# Altium schematic symbol library Linear Technology Power Management Energy Harvesting.SchLib: 169 symbols (part 9 of 13)
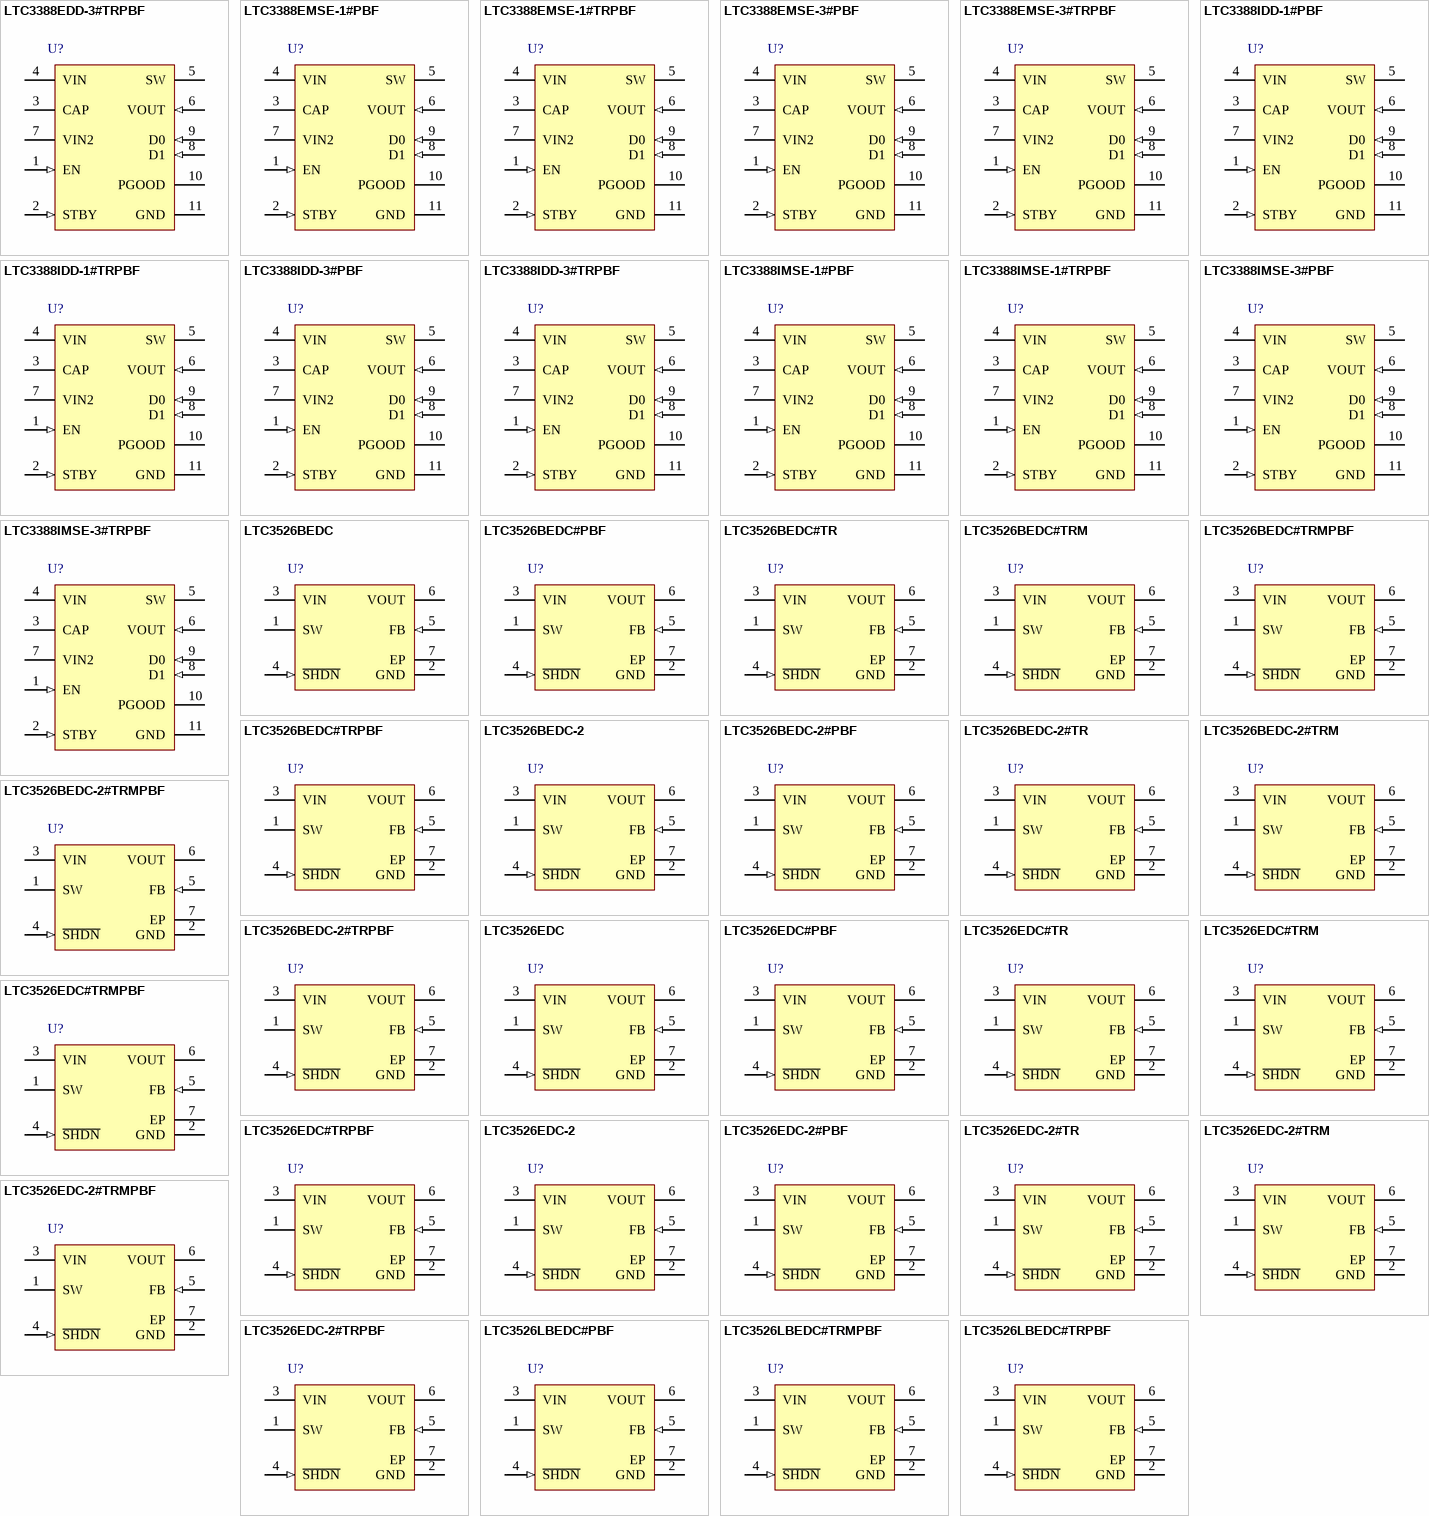
[diagram p13: symbols LTC3388EDD-3#TRPBF to LTC3526LBEDC#TRPBF]

## LTC3388IMSE-3#PBF
designator U?
20 V High Efficiency Nanopower Step-Down Regulator, 10-pin SOP (MSE-10), -40 to 125 degC, Pb-Free; Manufacturer: Linear Technology; PartNumber: LTC3388IMSE-3#PBF; Number of Outputs: 1; Topology: Buck; Vin Max(V): 20; Vin Min(V): 2.7; Vout Max(V): 5.18; PackageVersion: Rev. I, 05/2013; PackageReference: MSE-10; PackageDescription: 10-Pin Plastic MSOP, Exposed Die Pad, Body 3 x 3 mm, Pitch 0.5 mm; Supplier 1: Digi-Key; Supplier Part Number 1: LTC3388IMSE-3#PBF-ND; Supplier 2: Newark; Supplier Part Number 2: 84R6694; RoHS: TRUE; Mounting Technology: Surface Mount; ComponentLink1Description: Manufacturer URL; ComponentLink1URL: http://www.linear.com/; ComponentLink2Description: Datasheet; ComponentLink2URL: http://cds.linear.com/docs/en/datasheet/338813f.pdf; ComponentLink3Description: Package Specification; ComponentLink3URL: http://cds.linear.com/docs/en/packaging/05081664_I_MSE.pdf
footprint LT-MSE-10-EDP_N (SOP, 10-Leads, Body 3.1x3.1mm, Pitch 0.5mm, Thermal Pad 1.88x1.68mm, IPC Medium Density)
footprint LT-MSE-10-EDP_L (SOP, 10-Leads, Body 3.1x3.1mm, Pitch 0.5mm, Thermal Pad 1.88x1.68mm, IPC High Density)
footprint LT-MSE-10-EDP_M (SOP, 10-Leads, Body 3.1x3.1mm, Pitch 0.5mm, Thermal Pad 1.88x1.68mm, IPC Low Density)
pins: 1 EN (in) "Enable Input. Logic level input referenced to VIN2. A logic high on EN will enable the buck converter. Driving EN to VIN2 will result in no additional quiescent current on VIN. However, if EN is driven near VIH or VIL 40nA (See Datasheet)", 2 STBY (in) "Standby Input. Logic level input referenced to VIN2. A logic high on STBY will place the part in standby mode. Driving STBY to VIN2 will result in no additional quiescent current on VIN. However, if STBY is driven near VIH (See Datasheet)", 3 CAP "Internal rail referenced to VIN to serve as gate drive for buck PMOS switch. A 1uF capacitor should be connected between CAP and VIN. This pin is not intended for use as an external system rail.", 4 VIN (power) "Input Voltage. A 2.2uF or larger capacitor should be connected from VIN to GND.", 5 SW (power) "Switch Pin for the Buck Switching Regulator. A 22uH or larger inductor should be connected from SW to VOUT.", 6 VOUT (in) "Sense pin used to monitor the output voltage and adjust it through internal feedback.", 7 VIN2 (power) "Internal low voltage rail to serve as gate drive for buck NMOS switch. Also serves as a logic high rail for output voltage select bits D0 and D1. A 4.7uF capacitor should be connected from VIN2 to GND. This pin is not (See Datasheet)", 8 D1 (in) "Output Voltage Select Bit. D1 should be tied high to VIN2 or low to GND to select desired VOUT (see Table 1).", 9 D0 (in) "Output Voltage Select Bit. D0 should be tied high to VIN2 or low to GND to select desired VOUT (see Table 1).", 10 PGOOD (hiz) "Power Good Open-Drain NMOS Output. The PGOOD pin is Hi-Z when VOUT is above 92% of the target value.", 11 GND (power) "Ground. The exposed pad should be connected to a continuous ground plane on the second layer of the printed circuit board by several vias directly under the LTC3388-1/LTC3388-3."

## LTC3388IMSE-3#TRPBF
designator U?
20 V High Efficiency Nanopower Step-Down Regulator, 10-pin SOP (MSE-10), -40 to 125 degC, Pb-Free, Tape and Reel; Manufacturer: Linear Technology; PartNumber: LTC3388IMSE-3#TRPBF; Number of Outputs: 1; Topology: Buck; Vin Max(V): 20; Vin Min(V): 2.7; Vout Max(V): 5.18; PackageVersion: Rev. I, 05/2013; PackageReference: MSE-10; PackageDescription: 10-Pin Plastic MSOP, Exposed Die Pad, Body 3 x 3 mm, Pitch 0.5 mm; Supplier 1: Digi-Key; Supplier Part Number 1: LTC3388IMSE-3#TRPBF-ND; Packing: Tape and Reel; RoHS: TRUE; Mounting Technology: Surface Mount; ComponentLink1Description: Manufacturer URL; ComponentLink1URL: http://www.linear.com/; ComponentLink2Description: Datasheet; ComponentLink2URL: http://cds.linear.com/docs/en/datasheet/338813f.pdf; ComponentLink3Description: Package Specification; ComponentLink3URL: http://cds.linear.com/docs/en/packaging/05081664_I_MSE.pdf
footprint LT-MSE-10-EDP_N (SOP, 10-Leads, Body 3.1x3.1mm, Pitch 0.5mm, Thermal Pad 1.88x1.68mm, IPC Medium Density)
footprint LT-MSE-10-EDP_L (SOP, 10-Leads, Body 3.1x3.1mm, Pitch 0.5mm, Thermal Pad 1.88x1.68mm, IPC High Density)
footprint LT-MSE-10-EDP_M (SOP, 10-Leads, Body 3.1x3.1mm, Pitch 0.5mm, Thermal Pad 1.88x1.68mm, IPC Low Density)
pins: 1 EN (in) "Enable Input. Logic level input referenced to VIN2. A logic high on EN will enable the buck converter. Driving EN to VIN2 will result in no additional quiescent current on VIN. However, if EN is driven near VIH or VIL 40nA (See Datasheet)", 2 STBY (in) "Standby Input. Logic level input referenced to VIN2. A logic high on STBY will place the part in standby mode. Driving STBY to VIN2 will result in no additional quiescent current on VIN. However, if STBY is driven near VIH (See Datasheet)", 3 CAP "Internal rail referenced to VIN to serve as gate drive for buck PMOS switch. A 1uF capacitor should be connected between CAP and VIN. This pin is not intended for use as an external system rail.", 4 VIN (power) "Input Voltage. A 2.2uF or larger capacitor should be connected from VIN to GND.", 5 SW (power) "Switch Pin for the Buck Switching Regulator. A 22uH or larger inductor should be connected from SW to VOUT.", 6 VOUT (in) "Sense pin used to monitor the output voltage and adjust it through internal feedback.", 7 VIN2 (power) "Internal low voltage rail to serve as gate drive for buck NMOS switch. Also serves as a logic high rail for output voltage select bits D0 and D1. A 4.7uF capacitor should be connected from VIN2 to GND. This pin is not (See Datasheet)", 8 D1 (in) "Output Voltage Select Bit. D1 should be tied high to VIN2 or low to GND to select desired VOUT (see Table 1).", 9 D0 (in) "Output Voltage Select Bit. D0 should be tied high to VIN2 or low to GND to select desired VOUT (see Table 1).", 10 PGOOD (hiz) "Power Good Open-Drain NMOS Output. The PGOOD pin is Hi-Z when VOUT is above 92% of the target value.", 11 GND (power) "Ground. The exposed pad should be connected to a continuous ground plane on the second layer of the printed circuit board by several vias directly under the LTC3388-1/LTC3388-3."

## LTC3526BEDC
designator U?
500 mA 1 MHz Synchronous Step-Up DC/DC Converter, 6-pin SON (DC6-6), -40 to 85 degC; Manufacturer: Linear Technology; PartNumber: LTC3526BEDC; Number of Outputs: 1; Topology: Boost; Vin Max(V): 5; Vin Min(V): 0.5; DatasheetVersion: Rev. D; PackageVersion: Rev. B, 06/2010; PackageReference: DC6-6; PackageDescription: 6-Pin Plastic DFN, Body 2 x 2 mm, Pitch 0.5 mm; RoHS: FALSE; Mounting Technology: Surface Mount; Code_JEDEC: MO-229; ComponentLink1Description: Manufacturer URL; ComponentLink1URL: http://www.linear.com/; ComponentLink2Description: Datasheet; ComponentLink2URL: http://cds.linear.com/docs/en/datasheet/3526bfd.pdf; ComponentLink3Description: Package Specification; ComponentLink3URL: http://cds.linear.com/docs/en/packaging/DFN_6_05-08-1703.pdf
footprint LT-DC6-6_V (SON, 6-Leads, Body 2x2mm, Pitch 0.5mm, Thermal Pad 1.42x0.61mm)
pins: 1 SW (power) "Switch Pin. Connect inductor between SW and VIN. Keep PCB trace lengths as short and wide as possible to reduce EMI. If the inductor current falls to zero or S\H\D\N\ is low, an internal anti-ringing switch is connected from (See Datasheet)", 2 GND (power) "Signal and Power Ground. Provide a short direct PCB path between GND and the (-) side of the input and output capacitors.", 3 VIN (power) "Input Supply Pin. Connect a minimum of 1uF ceramic decoupling capacitor from this pin to ground using short direct PCB traces.", 4 ~{SHDN} (in) "Logic Controlled Shutdown Input. There is an internal 4Mohm pull-down on this pin.", 5 FB (in) "Feedback Input to the gm Error Amplifier. Connect resistor divider tap to this pin. The top of the divider connects to the output capacitor, the bottom of the divider connects to GND.", 6 VOUT (power) "Output voltage sense and drain of the internal synchronous rectifier. PCB trace from VOUT to the output filter capacitor (4.7uF minimum) should be as short and wide as possible.", 7 EP (power) "The Exposed Pad must be soldered to the PCB ground plane. It serves as an additional ground connection and as a means of conducting heat away from the package."

## LTC3526BEDC#PBF
designator U?
500 mA 1 MHz Synchronous Step-Up DC/DC Converter, 6-pin SON (DC6-6), -40 to 85 degC, Pb-Free; Manufacturer: Linear Technology; PartNumber: LTC3526BEDC#PBF; Number of Outputs: 1; Topology: Boost; Vin Max(V): 5; Vin Min(V): 0.5; DatasheetVersion: Rev. D; PackageVersion: Rev. B, 06/2010; PackageReference: DC6-6; PackageDescription: 6-Pin Plastic DFN, Body 2 x 2 mm, Pitch 0.5 mm; Supplier 1: Farnell; Supplier Part Number 1: 2115872; Supplier 2: Newark; Supplier Part Number 2: 61R9521; RoHS: TRUE; Mounting Technology: Surface Mount; Code_JEDEC: MO-229; ComponentLink1Description: Manufacturer URL; ComponentLink1URL: http://www.linear.com/; ComponentLink2Description: Datasheet; ComponentLink2URL: http://cds.linear.com/docs/en/datasheet/3526bfd.pdf; ComponentLink3Description: Package Specification; ComponentLink3URL: http://cds.linear.com/docs/en/packaging/DFN_6_05-08-1703.pdf
footprint LT-DC6-6_V (SON, 6-Leads, Body 2x2mm, Pitch 0.5mm, Thermal Pad 1.42x0.61mm)
pins: 1 SW (power) "Switch Pin. Connect inductor between SW and VIN. Keep PCB trace lengths as short and wide as possible to reduce EMI. If the inductor current falls to zero or S\H\D\N\ is low, an internal anti-ringing switch is connected from (See Datasheet)", 2 GND (power) "Signal and Power Ground. Provide a short direct PCB path between GND and the (-) side of the input and output capacitors.", 3 VIN (power) "Input Supply Pin. Connect a minimum of 1uF ceramic decoupling capacitor from this pin to ground using short direct PCB traces.", 4 ~{SHDN} (in) "Logic Controlled Shutdown Input. There is an internal 4Mohm pull-down on this pin.", 5 FB (in) "Feedback Input to the gm Error Amplifier. Connect resistor divider tap to this pin. The top of the divider connects to the output capacitor, the bottom of the divider connects to GND.", 6 VOUT (power) "Output voltage sense and drain of the internal synchronous rectifier. PCB trace from VOUT to the output filter capacitor (4.7uF minimum) should be as short and wide as possible.", 7 EP (power) "The Exposed Pad must be soldered to the PCB ground plane. It serves as an additional ground connection and as a means of conducting heat away from the package."

## LTC3526BEDC#TR
designator U?
500 mA 1 MHz Synchronous Step-Up DC/DC Converter, 6-pin SON (DC6-6), -40 to 85 degC, Tape and Reel; Manufacturer: Linear Technology; PartNumber: LTC3526BEDC#TR; Number of Outputs: 1; Topology: Boost; Vin Max(V): 5; Vin Min(V): 0.5; DatasheetVersion: Rev. D; PackageVersion: Rev. B, 06/2010; PackageReference: DC6-6; PackageDescription: 6-Pin Plastic DFN, Body 2 x 2 mm, Pitch 0.5 mm; Packing: Tape and Reel; RoHS: FALSE; Mounting Technology: Surface Mount; Code_JEDEC: MO-229; ComponentLink1Description: Manufacturer URL; ComponentLink1URL: http://www.linear.com/; ComponentLink2Description: Datasheet; ComponentLink2URL: http://cds.linear.com/docs/en/datasheet/3526bfd.pdf; ComponentLink3Description: Package Specification; ComponentLink3URL: http://cds.linear.com/docs/en/packaging/DFN_6_05-08-1703.pdf
footprint LT-DC6-6_V (SON, 6-Leads, Body 2x2mm, Pitch 0.5mm, Thermal Pad 1.42x0.61mm)
pins: 1 SW (power) "Switch Pin. Connect inductor between SW and VIN. Keep PCB trace lengths as short and wide as possible to reduce EMI. If the inductor current falls to zero or S\H\D\N\ is low, an internal anti-ringing switch is connected from (See Datasheet)", 2 GND (power) "Signal and Power Ground. Provide a short direct PCB path between GND and the (-) side of the input and output capacitors.", 3 VIN (power) "Input Supply Pin. Connect a minimum of 1uF ceramic decoupling capacitor from this pin to ground using short direct PCB traces.", 4 ~{SHDN} (in) "Logic Controlled Shutdown Input. There is an internal 4Mohm pull-down on this pin.", 5 FB (in) "Feedback Input to the gm Error Amplifier. Connect resistor divider tap to this pin. The top of the divider connects to the output capacitor, the bottom of the divider connects to GND.", 6 VOUT (power) "Output voltage sense and drain of the internal synchronous rectifier. PCB trace from VOUT to the output filter capacitor (4.7uF minimum) should be as short and wide as possible.", 7 EP (power) "The Exposed Pad must be soldered to the PCB ground plane. It serves as an additional ground connection and as a means of conducting heat away from the package."

## LTC3526BEDC#TRM
designator U?
500 mA 1 MHz Synchronous Step-Up DC/DC Converter, 6-pin SON (DC6-6), -40 to 85 degC, Mini Tape and Reel; Manufacturer: Linear Technology; PartNumber: LTC3526BEDC#TRM; Number of Outputs: 1; Topology: Boost; Vin Max(V): 5; Vin Min(V): 0.5; DatasheetVersion: Rev. D; PackageVersion: Rev. B, 06/2010; PackageReference: DC6-6; PackageDescription: 6-Pin Plastic DFN, Body 2 x 2 mm, Pitch 0.5 mm; Packing: Mini Tape and Reel; RoHS: FALSE; Mounting Technology: Surface Mount; Code_JEDEC: MO-229; ComponentLink1Description: Manufacturer URL; ComponentLink1URL: http://www.linear.com/; ComponentLink2Description: Datasheet; ComponentLink2URL: http://cds.linear.com/docs/en/datasheet/3526bfd.pdf; ComponentLink3Description: Package Specification; ComponentLink3URL: http://cds.linear.com/docs/en/packaging/DFN_6_05-08-1703.pdf
footprint LT-DC6-6_V (SON, 6-Leads, Body 2x2mm, Pitch 0.5mm, Thermal Pad 1.42x0.61mm)
pins: 1 SW (power) "Switch Pin. Connect inductor between SW and VIN. Keep PCB trace lengths as short and wide as possible to reduce EMI. If the inductor current falls to zero or S\H\D\N\ is low, an internal anti-ringing switch is connected from (See Datasheet)", 2 GND (power) "Signal and Power Ground. Provide a short direct PCB path between GND and the (-) side of the input and output capacitors.", 3 VIN (power) "Input Supply Pin. Connect a minimum of 1uF ceramic decoupling capacitor from this pin to ground using short direct PCB traces.", 4 ~{SHDN} (in) "Logic Controlled Shutdown Input. There is an internal 4Mohm pull-down on this pin.", 5 FB (in) "Feedback Input to the gm Error Amplifier. Connect resistor divider tap to this pin. The top of the divider connects to the output capacitor, the bottom of the divider connects to GND.", 6 VOUT (power) "Output voltage sense and drain of the internal synchronous rectifier. PCB trace from VOUT to the output filter capacitor (4.7uF minimum) should be as short and wide as possible.", 7 EP (power) "The Exposed Pad must be soldered to the PCB ground plane. It serves as an additional ground connection and as a means of conducting heat away from the package."

## LTC3526BEDC#TRMPBF
designator U?
500 mA 1 MHz Synchronous Step-Up DC/DC Converter, 6-pin SON (DC6-6), -40 to 85 degC, Pb-Free, Mini Tape and Reel; Manufacturer: Linear Technology; PartNumber: LTC3526BEDC#TRMPBF; Number of Outputs: 1; Topology: Boost; Vin Max(V): 5; Vin Min(V): 0.5; DatasheetVersion: Rev. D; PackageVersion: Rev. B, 06/2010; PackageReference: DC6-6; PackageDescription: 6-Pin Plastic DFN, Body 2 x 2 mm, Pitch 0.5 mm; Supplier 1: Digi-Key; Supplier Part Number 1: LTC3526BEDC#TRMPBF-ND; Supplier 2: Farnell; Supplier Part Number 2: 1663906; Supplier 3: Newark; Supplier Part Number 3: 56M7906; Packing: Mini Tape and Reel; RoHS: TRUE; Mounting Technology: Surface Mount; Code_JEDEC: MO-229; ComponentLink1Description: Manufacturer URL; ComponentLink1URL: http://www.linear.com/; ComponentLink2Description: Datasheet; ComponentLink2URL: http://cds.linear.com/docs/en/datasheet/3526bfd.pdf; ComponentLink3Description: Package Specification; ComponentLink3URL: http://cds.linear.com/docs/en/packaging/DFN_6_05-08-1703.pdf
footprint LT-DC6-6_V (SON, 6-Leads, Body 2x2mm, Pitch 0.5mm, Thermal Pad 1.42x0.61mm)
pins: 1 SW (power) "Switch Pin. Connect inductor between SW and VIN. Keep PCB trace lengths as short and wide as possible to reduce EMI. If the inductor current falls to zero or S\H\D\N\ is low, an internal anti-ringing switch is connected from (See Datasheet)", 2 GND (power) "Signal and Power Ground. Provide a short direct PCB path between GND and the (-) side of the input and output capacitors.", 3 VIN (power) "Input Supply Pin. Connect a minimum of 1uF ceramic decoupling capacitor from this pin to ground using short direct PCB traces.", 4 ~{SHDN} (in) "Logic Controlled Shutdown Input. There is an internal 4Mohm pull-down on this pin.", 5 FB (in) "Feedback Input to the gm Error Amplifier. Connect resistor divider tap to this pin. The top of the divider connects to the output capacitor, the bottom of the divider connects to GND.", 6 VOUT (power) "Output voltage sense and drain of the internal synchronous rectifier. PCB trace from VOUT to the output filter capacitor (4.7uF minimum) should be as short and wide as possible.", 7 EP (power) "The Exposed Pad must be soldered to the PCB ground plane. It serves as an additional ground connection and as a means of conducting heat away from the package."

## LTC3526BEDC#TRPBF
designator U?
500 mA 1 MHz Synchronous Step-Up DC/DC Converter, 6-pin SON (DC6-6), -40 to 85 degC, Pb-Free, Tape and Reel; Manufacturer: Linear Technology; PartNumber: LTC3526BEDC#TRPBF; Number of Outputs: 1; Topology: Boost; Vin Max(V): 5; Vin Min(V): 0.5; DatasheetVersion: Rev. D; PackageVersion: Rev. B, 06/2010; PackageReference: DC6-6; PackageDescription: 6-Pin Plastic DFN, Body 2 x 2 mm, Pitch 0.5 mm; Supplier 1: Digi-Key; Supplier Part Number 1: LTC3526BEDC#TRPBF-ND; Packing: Tape and Reel; RoHS: TRUE; Mounting Technology: Surface Mount; Code_JEDEC: MO-229; ComponentLink1Description: Manufacturer URL; ComponentLink1URL: http://www.linear.com/; ComponentLink2Description: Datasheet; ComponentLink2URL: http://cds.linear.com/docs/en/datasheet/3526bfd.pdf; ComponentLink3Description: Package Specification; ComponentLink3URL: http://cds.linear.com/docs/en/packaging/DFN_6_05-08-1703.pdf
footprint LT-DC6-6_V (SON, 6-Leads, Body 2x2mm, Pitch 0.5mm, Thermal Pad 1.42x0.61mm)
pins: 1 SW (power) "Switch Pin. Connect inductor between SW and VIN. Keep PCB trace lengths as short and wide as possible to reduce EMI. If the inductor current falls to zero or S\H\D\N\ is low, an internal anti-ringing switch is connected from (See Datasheet)", 2 GND (power) "Signal and Power Ground. Provide a short direct PCB path between GND and the (-) side of the input and output capacitors.", 3 VIN (power) "Input Supply Pin. Connect a minimum of 1uF ceramic decoupling capacitor from this pin to ground using short direct PCB traces.", 4 ~{SHDN} (in) "Logic Controlled Shutdown Input. There is an internal 4Mohm pull-down on this pin.", 5 FB (in) "Feedback Input to the gm Error Amplifier. Connect resistor divider tap to this pin. The top of the divider connects to the output capacitor, the bottom of the divider connects to GND.", 6 VOUT (power) "Output voltage sense and drain of the internal synchronous rectifier. PCB trace from VOUT to the output filter capacitor (4.7uF minimum) should be as short and wide as possible.", 7 EP (power) "The Exposed Pad must be soldered to the PCB ground plane. It serves as an additional ground connection and as a means of conducting heat away from the package."

## LTC3526BEDC-2
designator U?
500 mA 1 MHz Synchronous Step-Up DC/DC Converter, 6-pin SON (DC6-6), -40 to 85 degC; Manufacturer: Linear Technology; PartNumber: LTC3526BEDC-2; Number of Outputs: 1; Topology: Boost; Vin Max(V): 5; Vin Min(V): 0.5; DatasheetVersion: Rev. D; PackageVersion: Rev. B, 06/2010; PackageReference: DC6-6; PackageDescription: 6-Pin Plastic DFN, Body 2 x 2 mm, Pitch 0.5 mm; RoHS: FALSE; Mounting Technology: Surface Mount; Code_JEDEC: MO-229; ComponentLink1Description: Manufacturer URL; ComponentLink1URL: http://www.linear.com/; ComponentLink2Description: Datasheet; ComponentLink2URL: http://cds.linear.com/docs/en/datasheet/3526bfd.pdf; ComponentLink3Description: Package Specification; ComponentLink3URL: http://cds.linear.com/docs/en/packaging/DFN_6_05-08-1703.pdf
footprint LT-DC6-6_V (SON, 6-Leads, Body 2x2mm, Pitch 0.5mm, Thermal Pad 1.42x0.61mm)
pins: 1 SW (power) "Switch Pin. Connect inductor between SW and VIN. Keep PCB trace lengths as short and wide as possible to reduce EMI. If the inductor current falls to zero or S\H\D\N\ is low, an internal anti-ringing switch is connected from (See Datasheet)", 2 GND (power) "Signal and Power Ground. Provide a short direct PCB path between GND and the (-) side of the input and output capacitors.", 3 VIN (power) "Input Supply Pin. Connect a minimum of 1uF ceramic decoupling capacitor from this pin to ground using short direct PCB traces.", 4 ~{SHDN} (in) "Logic Controlled Shutdown Input. There is an internal 4Mohm pull-down on this pin.", 5 FB (in) "Feedback Input to the gm Error Amplifier. Connect resistor divider tap to this pin. The top of the divider connects to the output capacitor, the bottom of the divider connects to GND.", 6 VOUT (power) "Output voltage sense and drain of the internal synchronous rectifier. PCB trace from VOUT to the output filter capacitor (4.7uF minimum) should be as short and wide as possible.", 7 EP (power) "The Exposed Pad must be soldered to the PCB ground plane. It serves as an additional ground connection and as a means of conducting heat away from the package."

## LTC3526BEDC-2#PBF
designator U?
500 mA 1 MHz Synchronous Step-Up DC/DC Converter, 6-pin SON (DC6-6), -40 to 85 degC, Pb-Free; Manufacturer: Linear Technology; PartNumber: LTC3526BEDC-2#PBF; Number of Outputs: 1; Topology: Boost; Vin Max(V): 5; Vin Min(V): 0.5; DatasheetVersion: Rev. D; PackageVersion: Rev. B, 06/2010; PackageReference: DC6-6; PackageDescription: 6-Pin Plastic DFN, Body 2 x 2 mm, Pitch 0.5 mm; RoHS: TRUE; Mounting Technology: Surface Mount; Code_JEDEC: MO-229; ComponentLink1Description: Manufacturer URL; ComponentLink1URL: http://www.linear.com/; ComponentLink2Description: Datasheet; ComponentLink2URL: http://cds.linear.com/docs/en/datasheet/3526bfd.pdf; ComponentLink3Description: Package Specification; ComponentLink3URL: http://cds.linear.com/docs/en/packaging/DFN_6_05-08-1703.pdf
footprint LT-DC6-6_V (SON, 6-Leads, Body 2x2mm, Pitch 0.5mm, Thermal Pad 1.42x0.61mm)
pins: 1 SW (power) "Switch Pin. Connect inductor between SW and VIN. Keep PCB trace lengths as short and wide as possible to reduce EMI. If the inductor current falls to zero or S\H\D\N\ is low, an internal anti-ringing switch is connected from (See Datasheet)", 2 GND (power) "Signal and Power Ground. Provide a short direct PCB path between GND and the (-) side of the input and output capacitors.", 3 VIN (power) "Input Supply Pin. Connect a minimum of 1uF ceramic decoupling capacitor from this pin to ground using short direct PCB traces.", 4 ~{SHDN} (in) "Logic Controlled Shutdown Input. There is an internal 4Mohm pull-down on this pin.", 5 FB (in) "Feedback Input to the gm Error Amplifier. Connect resistor divider tap to this pin. The top of the divider connects to the output capacitor, the bottom of the divider connects to GND.", 6 VOUT (power) "Output voltage sense and drain of the internal synchronous rectifier. PCB trace from VOUT to the output filter capacitor (4.7uF minimum) should be as short and wide as possible.", 7 EP (power) "The Exposed Pad must be soldered to the PCB ground plane. It serves as an additional ground connection and as a means of conducting heat away from the package."

## LTC3526BEDC-2#TR
designator U?
500 mA 1 MHz Synchronous Step-Up DC/DC Converter, 6-pin SON (DC6-6), -40 to 85 degC, Tape and Reel; Manufacturer: Linear Technology; PartNumber: LTC3526BEDC-2#TR; Number of Outputs: 1; Topology: Boost; Vin Max(V): 5; Vin Min(V): 0.5; DatasheetVersion: Rev. D; PackageVersion: Rev. B, 06/2010; PackageReference: DC6-6; PackageDescription: 6-Pin Plastic DFN, Body 2 x 2 mm, Pitch 0.5 mm; Packing: Tape and Reel; RoHS: FALSE; Mounting Technology: Surface Mount; Code_JEDEC: MO-229; ComponentLink1Description: Manufacturer URL; ComponentLink1URL: http://www.linear.com/; ComponentLink2Description: Datasheet; ComponentLink2URL: http://cds.linear.com/docs/en/datasheet/3526bfd.pdf; ComponentLink3Description: Package Specification; ComponentLink3URL: http://cds.linear.com/docs/en/packaging/DFN_6_05-08-1703.pdf
footprint LT-DC6-6_V (SON, 6-Leads, Body 2x2mm, Pitch 0.5mm, Thermal Pad 1.42x0.61mm)
pins: 1 SW (power) "Switch Pin. Connect inductor between SW and VIN. Keep PCB trace lengths as short and wide as possible to reduce EMI. If the inductor current falls to zero or S\H\D\N\ is low, an internal anti-ringing switch is connected from (See Datasheet)", 2 GND (power) "Signal and Power Ground. Provide a short direct PCB path between GND and the (-) side of the input and output capacitors.", 3 VIN (power) "Input Supply Pin. Connect a minimum of 1uF ceramic decoupling capacitor from this pin to ground using short direct PCB traces.", 4 ~{SHDN} (in) "Logic Controlled Shutdown Input. There is an internal 4Mohm pull-down on this pin.", 5 FB (in) "Feedback Input to the gm Error Amplifier. Connect resistor divider tap to this pin. The top of the divider connects to the output capacitor, the bottom of the divider connects to GND.", 6 VOUT (power) "Output voltage sense and drain of the internal synchronous rectifier. PCB trace from VOUT to the output filter capacitor (4.7uF minimum) should be as short and wide as possible.", 7 EP (power) "The Exposed Pad must be soldered to the PCB ground plane. It serves as an additional ground connection and as a means of conducting heat away from the package."

## LTC3526BEDC-2#TRM
designator U?
500 mA 1 MHz Synchronous Step-Up DC/DC Converter, 6-pin SON (DC6-6), -40 to 85 degC, Mini Tape and Reel; Manufacturer: Linear Technology; PartNumber: LTC3526BEDC-2#TRM; Number of Outputs: 1; Topology: Boost; Vin Max(V): 5; Vin Min(V): 0.5; DatasheetVersion: Rev. D; PackageVersion: Rev. B, 06/2010; PackageReference: DC6-6; PackageDescription: 6-Pin Plastic DFN, Body 2 x 2 mm, Pitch 0.5 mm; Packing: Mini Tape and Reel; RoHS: FALSE; Mounting Technology: Surface Mount; Code_JEDEC: MO-229; ComponentLink1Description: Manufacturer URL; ComponentLink1URL: http://www.linear.com/; ComponentLink2Description: Datasheet; ComponentLink2URL: http://cds.linear.com/docs/en/datasheet/3526bfd.pdf; ComponentLink3Description: Package Specification; ComponentLink3URL: http://cds.linear.com/docs/en/packaging/DFN_6_05-08-1703.pdf
footprint LT-DC6-6_V (SON, 6-Leads, Body 2x2mm, Pitch 0.5mm, Thermal Pad 1.42x0.61mm)
pins: 1 SW (power) "Switch Pin. Connect inductor between SW and VIN. Keep PCB trace lengths as short and wide as possible to reduce EMI. If the inductor current falls to zero or S\H\D\N\ is low, an internal anti-ringing switch is connected from (See Datasheet)", 2 GND (power) "Signal and Power Ground. Provide a short direct PCB path between GND and the (-) side of the input and output capacitors.", 3 VIN (power) "Input Supply Pin. Connect a minimum of 1uF ceramic decoupling capacitor from this pin to ground using short direct PCB traces.", 4 ~{SHDN} (in) "Logic Controlled Shutdown Input. There is an internal 4Mohm pull-down on this pin.", 5 FB (in) "Feedback Input to the gm Error Amplifier. Connect resistor divider tap to this pin. The top of the divider connects to the output capacitor, the bottom of the divider connects to GND.", 6 VOUT (power) "Output voltage sense and drain of the internal synchronous rectifier. PCB trace from VOUT to the output filter capacitor (4.7uF minimum) should be as short and wide as possible.", 7 EP (power) "The Exposed Pad must be soldered to the PCB ground plane. It serves as an additional ground connection and as a means of conducting heat away from the package."

## LTC3526BEDC-2#TRMPBF
designator U?
500 mA 1 MHz Synchronous Step-Up DC/DC Converter, 6-pin SON (DC6-6), -40 to 85 degC, Pb-Free, Mini Tape and Reel; Manufacturer: Linear Technology; PartNumber: LTC3526BEDC-2#TRMPBF; Number of Outputs: 1; Topology: Boost; Vin Max(V): 5; Vin Min(V): 0.5; DatasheetVersion: Rev. D; PackageVersion: Rev. B, 06/2010; PackageReference: DC6-6; PackageDescription: 6-Pin Plastic DFN, Body 2 x 2 mm, Pitch 0.5 mm; Supplier 1: Digi-Key; Supplier Part Number 1: LTC3526BEDC-2#TRMPBF-ND; Packing: Mini Tape and Reel; RoHS: TRUE; Mounting Technology: Surface Mount; Code_JEDEC: MO-229; ComponentLink1Description: Manufacturer URL; ComponentLink1URL: http://www.linear.com/; ComponentLink2Description: Datasheet; ComponentLink2URL: http://cds.linear.com/docs/en/datasheet/3526bfd.pdf; ComponentLink3Description: Package Specification; ComponentLink3URL: http://cds.linear.com/docs/en/packaging/DFN_6_05-08-1703.pdf
footprint LT-DC6-6_V (SON, 6-Leads, Body 2x2mm, Pitch 0.5mm, Thermal Pad 1.42x0.61mm)
pins: 1 SW (power) "Switch Pin. Connect inductor between SW and VIN. Keep PCB trace lengths as short and wide as possible to reduce EMI. If the inductor current falls to zero or S\H\D\N\ is low, an internal anti-ringing switch is connected from (See Datasheet)", 2 GND (power) "Signal and Power Ground. Provide a short direct PCB path between GND and the (-) side of the input and output capacitors.", 3 VIN (power) "Input Supply Pin. Connect a minimum of 1uF ceramic decoupling capacitor from this pin to ground using short direct PCB traces.", 4 ~{SHDN} (in) "Logic Controlled Shutdown Input. There is an internal 4Mohm pull-down on this pin.", 5 FB (in) "Feedback Input to the gm Error Amplifier. Connect resistor divider tap to this pin. The top of the divider connects to the output capacitor, the bottom of the divider connects to GND.", 6 VOUT (power) "Output voltage sense and drain of the internal synchronous rectifier. PCB trace from VOUT to the output filter capacitor (4.7uF minimum) should be as short and wide as possible.", 7 EP (power) "The Exposed Pad must be soldered to the PCB ground plane. It serves as an additional ground connection and as a means of conducting heat away from the package."

## LTC3526BEDC-2#TRPBF
designator U?
500 mA 1 MHz Synchronous Step-Up DC/DC Converter, 6-pin SON (DC6-6), -40 to 85 degC, Pb-Free, Tape and Reel; Manufacturer: Linear Technology; PartNumber: LTC3526BEDC-2#TRPBF; Number of Outputs: 1; Topology: Boost; Vin Max(V): 5; Vin Min(V): 0.5; DatasheetVersion: Rev. D; PackageVersion: Rev. B, 06/2010; PackageReference: DC6-6; PackageDescription: 6-Pin Plastic DFN, Body 2 x 2 mm, Pitch 0.5 mm; Supplier 1: Digi-Key; Supplier Part Number 1: LTC3526BEDC-2#TRPBF-ND; Packing: Tape and Reel; RoHS: TRUE; Mounting Technology: Surface Mount; Code_JEDEC: MO-229; ComponentLink1Description: Manufacturer URL; ComponentLink1URL: http://www.linear.com/; ComponentLink2Description: Datasheet; ComponentLink2URL: http://cds.linear.com/docs/en/datasheet/3526bfd.pdf; ComponentLink3Description: Package Specification; ComponentLink3URL: http://cds.linear.com/docs/en/packaging/DFN_6_05-08-1703.pdf
footprint LT-DC6-6_V (SON, 6-Leads, Body 2x2mm, Pitch 0.5mm, Thermal Pad 1.42x0.61mm)
pins: 1 SW (power) "Switch Pin. Connect inductor between SW and VIN. Keep PCB trace lengths as short and wide as possible to reduce EMI. If the inductor current falls to zero or S\H\D\N\ is low, an internal anti-ringing switch is connected from (See Datasheet)", 2 GND (power) "Signal and Power Ground. Provide a short direct PCB path between GND and the (-) side of the input and output capacitors.", 3 VIN (power) "Input Supply Pin. Connect a minimum of 1uF ceramic decoupling capacitor from this pin to ground using short direct PCB traces.", 4 ~{SHDN} (in) "Logic Controlled Shutdown Input. There is an internal 4Mohm pull-down on this pin.", 5 FB (in) "Feedback Input to the gm Error Amplifier. Connect resistor divider tap to this pin. The top of the divider connects to the output capacitor, the bottom of the divider connects to GND.", 6 VOUT (power) "Output voltage sense and drain of the internal synchronous rectifier. PCB trace from VOUT to the output filter capacitor (4.7uF minimum) should be as short and wide as possible.", 7 EP (power) "The Exposed Pad must be soldered to the PCB ground plane. It serves as an additional ground connection and as a means of conducting heat away from the package."

## LTC3526EDC
designator U?
500 mA 1 MHz Synchronous Step-Up DC/DC Converter, 6-pin SON (DC6-6), -40 to 85 degC; Manufacturer: Linear Technology; PartNumber: LTC3526EDC; Number of Outputs: 1; Topology: Boost; Vin Max(V): 5; Vin Min(V): 0.5; DatasheetVersion: Rev. D; PackageVersion: Rev. B, 06/2010; PackageReference: DC6-6; PackageDescription: 6-Pin Plastic DFN, Body 2 x 2 mm, Pitch 0.5 mm; RoHS: FALSE; Mounting Technology: Surface Mount; Code_JEDEC: MO-229; ComponentLink1Description: Manufacturer URL; ComponentLink1URL: http://www.linear.com/; ComponentLink2Description: Datasheet; ComponentLink2URL: http://cds.linear.com/docs/en/datasheet/3526bfd.pdf; ComponentLink3Description: Package Specification; ComponentLink3URL: http://cds.linear.com/docs/en/packaging/DFN_6_05-08-1703.pdf
footprint LT-DC6-6_V (SON, 6-Leads, Body 2x2mm, Pitch 0.5mm, Thermal Pad 1.42x0.61mm)
pins: 1 SW (power) "Switch Pin. Connect inductor between SW and VIN. Keep PCB trace lengths as short and wide as possible to reduce EMI. If the inductor current falls to zero or S\H\D\N\ is low, an internal anti-ringing switch is connected from (See Datasheet)", 2 GND (power) "Signal and Power Ground. Provide a short direct PCB path between GND and the (-) side of the input and output capacitors.", 3 VIN (power) "Input Supply Pin. Connect a minimum of 1uF ceramic decoupling capacitor from this pin to ground using short direct PCB traces.", 4 ~{SHDN} (in) "Logic Controlled Shutdown Input. There is an internal 4Mohm pull-down on this pin.", 5 FB (in) "Feedback Input to the gm Error Amplifier. Connect resistor divider tap to this pin. The top of the divider connects to the output capacitor, the bottom of the divider connects to GND.", 6 VOUT (power) "Output voltage sense and drain of the internal synchronous rectifier. PCB trace from VOUT to the output filter capacitor (4.7uF minimum) should be as short and wide as possible.", 7 EP (power) "The Exposed Pad must be soldered to the PCB ground plane. It serves as an additional ground connection and as a means of conducting heat away from the package."

## LTC3526EDC#PBF
designator U?
500 mA 1 MHz Synchronous Step-Up DC/DC Converter, 6-pin SON (DC6-6), -40 to 85 degC, Pb-Free; Manufacturer: Linear Technology; PartNumber: LTC3526EDC#PBF; Number of Outputs: 1; Topology: Boost; Vin Max(V): 5; Vin Min(V): 0.5; DatasheetVersion: Rev. D; PackageVersion: Rev. B, 06/2010; PackageReference: DC6-6; PackageDescription: 6-Pin Plastic DFN, Body 2 x 2 mm, Pitch 0.5 mm; Supplier 1: Farnell; Supplier Part Number 1: 1541144; Supplier 2: Newark; Supplier Part Number 2: 61M3334; RoHS: TRUE; Mounting Technology: Surface Mount; Code_JEDEC: MO-229; ComponentLink1Description: Manufacturer URL; ComponentLink1URL: http://www.linear.com/; ComponentLink2Description: Datasheet; ComponentLink2URL: http://cds.linear.com/docs/en/datasheet/3526bfd.pdf; ComponentLink3Description: Package Specification; ComponentLink3URL: http://cds.linear.com/docs/en/packaging/DFN_6_05-08-1703.pdf
footprint LT-DC6-6_V (SON, 6-Leads, Body 2x2mm, Pitch 0.5mm, Thermal Pad 1.42x0.61mm)
pins: 1 SW (power) "Switch Pin. Connect inductor between SW and VIN. Keep PCB trace lengths as short and wide as possible to reduce EMI. If the inductor current falls to zero or S\H\D\N\ is low, an internal anti-ringing switch is connected from (See Datasheet)", 2 GND (power) "Signal and Power Ground. Provide a short direct PCB path between GND and the (-) side of the input and output capacitors.", 3 VIN (power) "Input Supply Pin. Connect a minimum of 1uF ceramic decoupling capacitor from this pin to ground using short direct PCB traces.", 4 ~{SHDN} (in) "Logic Controlled Shutdown Input. There is an internal 4Mohm pull-down on this pin.", 5 FB (in) "Feedback Input to the gm Error Amplifier. Connect resistor divider tap to this pin. The top of the divider connects to the output capacitor, the bottom of the divider connects to GND.", 6 VOUT (power) "Output voltage sense and drain of the internal synchronous rectifier. PCB trace from VOUT to the output filter capacitor (4.7uF minimum) should be as short and wide as possible.", 7 EP (power) "The Exposed Pad must be soldered to the PCB ground plane. It serves as an additional ground connection and as a means of conducting heat away from the package."

## LTC3526EDC#TR
designator U?
500 mA 1 MHz Synchronous Step-Up DC/DC Converter, 6-pin SON (DC6-6), -40 to 85 degC, Tape and Reel; Manufacturer: Linear Technology; PartNumber: LTC3526EDC#TR; Number of Outputs: 1; Topology: Boost; Vin Max(V): 5; Vin Min(V): 0.5; DatasheetVersion: Rev. D; PackageVersion: Rev. B, 06/2010; PackageReference: DC6-6; PackageDescription: 6-Pin Plastic DFN, Body 2 x 2 mm, Pitch 0.5 mm; Packing: Tape and Reel; RoHS: FALSE; Mounting Technology: Surface Mount; Code_JEDEC: MO-229; ComponentLink1Description: Manufacturer URL; ComponentLink1URL: http://www.linear.com/; ComponentLink2Description: Datasheet; ComponentLink2URL: http://cds.linear.com/docs/en/datasheet/3526bfd.pdf; ComponentLink3Description: Package Specification; ComponentLink3URL: http://cds.linear.com/docs/en/packaging/DFN_6_05-08-1703.pdf
footprint LT-DC6-6_V (SON, 6-Leads, Body 2x2mm, Pitch 0.5mm, Thermal Pad 1.42x0.61mm)
pins: 1 SW (power) "Switch Pin. Connect inductor between SW and VIN. Keep PCB trace lengths as short and wide as possible to reduce EMI. If the inductor current falls to zero or S\H\D\N\ is low, an internal anti-ringing switch is connected from (See Datasheet)", 2 GND (power) "Signal and Power Ground. Provide a short direct PCB path between GND and the (-) side of the input and output capacitors.", 3 VIN (power) "Input Supply Pin. Connect a minimum of 1uF ceramic decoupling capacitor from this pin to ground using short direct PCB traces.", 4 ~{SHDN} (in) "Logic Controlled Shutdown Input. There is an internal 4Mohm pull-down on this pin.", 5 FB (in) "Feedback Input to the gm Error Amplifier. Connect resistor divider tap to this pin. The top of the divider connects to the output capacitor, the bottom of the divider connects to GND.", 6 VOUT (power) "Output voltage sense and drain of the internal synchronous rectifier. PCB trace from VOUT to the output filter capacitor (4.7uF minimum) should be as short and wide as possible.", 7 EP (power) "The Exposed Pad must be soldered to the PCB ground plane. It serves as an additional ground connection and as a means of conducting heat away from the package."

## LTC3526EDC#TRM
designator U?
500 mA 1 MHz Synchronous Step-Up DC/DC Converter, 6-pin SON (DC6-6), -40 to 85 degC, Mini Tape and Reel; Manufacturer: Linear Technology; PartNumber: LTC3526EDC#TRM; Number of Outputs: 1; Topology: Boost; Vin Max(V): 5; Vin Min(V): 0.5; DatasheetVersion: Rev. D; PackageVersion: Rev. B, 06/2010; PackageReference: DC6-6; PackageDescription: 6-Pin Plastic DFN, Body 2 x 2 mm, Pitch 0.5 mm; Packing: Mini Tape and Reel; RoHS: FALSE; Mounting Technology: Surface Mount; Code_JEDEC: MO-229; ComponentLink1Description: Manufacturer URL; ComponentLink1URL: http://www.linear.com/; ComponentLink2Description: Datasheet; ComponentLink2URL: http://cds.linear.com/docs/en/datasheet/3526bfd.pdf; ComponentLink3Description: Package Specification; ComponentLink3URL: http://cds.linear.com/docs/en/packaging/DFN_6_05-08-1703.pdf
footprint LT-DC6-6_V (SON, 6-Leads, Body 2x2mm, Pitch 0.5mm, Thermal Pad 1.42x0.61mm)
pins: 1 SW (power) "Switch Pin. Connect inductor between SW and VIN. Keep PCB trace lengths as short and wide as possible to reduce EMI. If the inductor current falls to zero or S\H\D\N\ is low, an internal anti-ringing switch is connected from (See Datasheet)", 2 GND (power) "Signal and Power Ground. Provide a short direct PCB path between GND and the (-) side of the input and output capacitors.", 3 VIN (power) "Input Supply Pin. Connect a minimum of 1uF ceramic decoupling capacitor from this pin to ground using short direct PCB traces.", 4 ~{SHDN} (in) "Logic Controlled Shutdown Input. There is an internal 4Mohm pull-down on this pin.", 5 FB (in) "Feedback Input to the gm Error Amplifier. Connect resistor divider tap to this pin. The top of the divider connects to the output capacitor, the bottom of the divider connects to GND.", 6 VOUT (power) "Output voltage sense and drain of the internal synchronous rectifier. PCB trace from VOUT to the output filter capacitor (4.7uF minimum) should be as short and wide as possible.", 7 EP (power) "The Exposed Pad must be soldered to the PCB ground plane. It serves as an additional ground connection and as a means of conducting heat away from the package."

## LTC3526EDC#TRMPBF
designator U?
500 mA 1 MHz Synchronous Step-Up DC/DC Converter, 6-pin SON (DC6-6), -40 to 85 degC, Pb-Free, Mini Tape and Reel; Manufacturer: Linear Technology; PartNumber: LTC3526EDC#TRMPBF; Number of Outputs: 1; Topology: Boost; Vin Max(V): 5; Vin Min(V): 0.5; DatasheetVersion: Rev. D; PackageVersion: Rev. B, 06/2010; PackageReference: DC6-6; PackageDescription: 6-Pin Plastic DFN, Body 2 x 2 mm, Pitch 0.5 mm; Supplier 1: Digi-Key; Supplier Part Number 1: LTC3526EDC#TRMPBF-ND; Supplier 2: Newark; Supplier Part Number 2: 56M7914; Packing: Mini Tape and Reel; RoHS: TRUE; Mounting Technology: Surface Mount; Code_JEDEC: MO-229; ComponentLink1Description: Manufacturer URL; ComponentLink1URL: http://www.linear.com/; ComponentLink2Description: Datasheet; ComponentLink2URL: http://cds.linear.com/docs/en/datasheet/3526bfd.pdf; ComponentLink3Description: Package Specification; ComponentLink3URL: http://cds.linear.com/docs/en/packaging/DFN_6_05-08-1703.pdf
footprint LT-DC6-6_V (SON, 6-Leads, Body 2x2mm, Pitch 0.5mm, Thermal Pad 1.42x0.61mm)
pins: 1 SW (power) "Switch Pin. Connect inductor between SW and VIN. Keep PCB trace lengths as short and wide as possible to reduce EMI. If the inductor current falls to zero or S\H\D\N\ is low, an internal anti-ringing switch is connected from (See Datasheet)", 2 GND (power) "Signal and Power Ground. Provide a short direct PCB path between GND and the (-) side of the input and output capacitors.", 3 VIN (power) "Input Supply Pin. Connect a minimum of 1uF ceramic decoupling capacitor from this pin to ground using short direct PCB traces.", 4 ~{SHDN} (in) "Logic Controlled Shutdown Input. There is an internal 4Mohm pull-down on this pin.", 5 FB (in) "Feedback Input to the gm Error Amplifier. Connect resistor divider tap to this pin. The top of the divider connects to the output capacitor, the bottom of the divider connects to GND.", 6 VOUT (power) "Output voltage sense and drain of the internal synchronous rectifier. PCB trace from VOUT to the output filter capacitor (4.7uF minimum) should be as short and wide as possible.", 7 EP (power) "The Exposed Pad must be soldered to the PCB ground plane. It serves as an additional ground connection and as a means of conducting heat away from the package."

## LTC3526EDC#TRPBF
designator U?
500 mA 1 MHz Synchronous Step-Up DC/DC Converter, 6-pin SON (DC6-6), -40 to 85 degC, Pb-Free, Tape and Reel; Manufacturer: Linear Technology; PartNumber: LTC3526EDC#TRPBF; Number of Outputs: 1; Topology: Boost; Vin Max(V): 5; Vin Min(V): 0.5; DatasheetVersion: Rev. D; PackageVersion: Rev. B, 06/2010; PackageReference: DC6-6; PackageDescription: 6-Pin Plastic DFN, Body 2 x 2 mm, Pitch 0.5 mm; Supplier 1: Digi-Key; Supplier Part Number 1: LTC3526EDC#TRPBF-ND; Supplier 2: Newark; Supplier Part Number 2: 56M7915; Packing: Tape and Reel; RoHS: TRUE; Mounting Technology: Surface Mount; Code_JEDEC: MO-229; ComponentLink1Description: Manufacturer URL; ComponentLink1URL: http://www.linear.com/; ComponentLink2Description: Datasheet; ComponentLink2URL: http://cds.linear.com/docs/en/datasheet/3526bfd.pdf; ComponentLink3Description: Package Specification; ComponentLink3URL: http://cds.linear.com/docs/en/packaging/DFN_6_05-08-1703.pdf
footprint LT-DC6-6_V (SON, 6-Leads, Body 2x2mm, Pitch 0.5mm, Thermal Pad 1.42x0.61mm)
pins: 1 SW (power) "Switch Pin. Connect inductor between SW and VIN. Keep PCB trace lengths as short and wide as possible to reduce EMI. If the inductor current falls to zero or S\H\D\N\ is low, an internal anti-ringing switch is connected from (See Datasheet)", 2 GND (power) "Signal and Power Ground. Provide a short direct PCB path between GND and the (-) side of the input and output capacitors.", 3 VIN (power) "Input Supply Pin. Connect a minimum of 1uF ceramic decoupling capacitor from this pin to ground using short direct PCB traces.", 4 ~{SHDN} (in) "Logic Controlled Shutdown Input. There is an internal 4Mohm pull-down on this pin.", 5 FB (in) "Feedback Input to the gm Error Amplifier. Connect resistor divider tap to this pin. The top of the divider connects to the output capacitor, the bottom of the divider connects to GND.", 6 VOUT (power) "Output voltage sense and drain of the internal synchronous rectifier. PCB trace from VOUT to the output filter capacitor (4.7uF minimum) should be as short and wide as possible.", 7 EP (power) "The Exposed Pad must be soldered to the PCB ground plane. It serves as an additional ground connection and as a means of conducting heat away from the package."

## LTC3526EDC-2
designator U?
500 mA 1 MHz Synchronous Step-Up DC/DC Converter, 6-pin SON (DC6-6), -40 to 85 degC; Manufacturer: Linear Technology; PartNumber: LTC3526EDC-2; Number of Outputs: 1; Topology: Boost; Vin Max(V): 5; Vin Min(V): 0.5; DatasheetVersion: Rev. D; PackageVersion: Rev. B, 06/2010; PackageReference: DC6-6; PackageDescription: 6-Pin Plastic DFN, Body 2 x 2 mm, Pitch 0.5 mm; RoHS: FALSE; Mounting Technology: Surface Mount; Code_JEDEC: MO-229; ComponentLink1Description: Manufacturer URL; ComponentLink1URL: http://www.linear.com/; ComponentLink2Description: Datasheet; ComponentLink2URL: http://cds.linear.com/docs/en/datasheet/3526bfd.pdf; ComponentLink3Description: Package Specification; ComponentLink3URL: http://cds.linear.com/docs/en/packaging/DFN_6_05-08-1703.pdf
footprint LT-DC6-6_V (SON, 6-Leads, Body 2x2mm, Pitch 0.5mm, Thermal Pad 1.42x0.61mm)
pins: 1 SW (power) "Switch Pin. Connect inductor between SW and VIN. Keep PCB trace lengths as short and wide as possible to reduce EMI. If the inductor current falls to zero or S\H\D\N\ is low, an internal anti-ringing switch is connected from (See Datasheet)", 2 GND (power) "Signal and Power Ground. Provide a short direct PCB path between GND and the (-) side of the input and output capacitors.", 3 VIN (power) "Input Supply Pin. Connect a minimum of 1uF ceramic decoupling capacitor from this pin to ground using short direct PCB traces.", 4 ~{SHDN} (in) "Logic Controlled Shutdown Input. There is an internal 4Mohm pull-down on this pin.", 5 FB (in) "Feedback Input to the gm Error Amplifier. Connect resistor divider tap to this pin. The top of the divider connects to the output capacitor, the bottom of the divider connects to GND.", 6 VOUT (power) "Output voltage sense and drain of the internal synchronous rectifier. PCB trace from VOUT to the output filter capacitor (4.7uF minimum) should be as short and wide as possible.", 7 EP (power) "The Exposed Pad must be soldered to the PCB ground plane. It serves as an additional ground connection and as a means of conducting heat away from the package."

## LTC3526EDC-2#PBF
designator U?
500 mA 1 MHz Synchronous Step-Up DC/DC Converter, 6-pin SON (DC6-6), -40 to 85 degC, Pb-Free; Manufacturer: Linear Technology; PartNumber: LTC3526EDC-2#PBF; Number of Outputs: 1; Topology: Boost; Vin Max(V): 5; Vin Min(V): 0.5; DatasheetVersion: Rev. D; PackageVersion: Rev. B, 06/2010; PackageReference: DC6-6; PackageDescription: 6-Pin Plastic DFN, Body 2 x 2 mm, Pitch 0.5 mm; RoHS: TRUE; Mounting Technology: Surface Mount; Code_JEDEC: MO-229; ComponentLink1Description: Manufacturer URL; ComponentLink1URL: http://www.linear.com/; ComponentLink2Description: Datasheet; ComponentLink2URL: http://cds.linear.com/docs/en/datasheet/3526bfd.pdf; ComponentLink3Description: Package Specification; ComponentLink3URL: http://cds.linear.com/docs/en/packaging/DFN_6_05-08-1703.pdf
footprint LT-DC6-6_V (SON, 6-Leads, Body 2x2mm, Pitch 0.5mm, Thermal Pad 1.42x0.61mm)
pins: 1 SW (power) "Switch Pin. Connect inductor between SW and VIN. Keep PCB trace lengths as short and wide as possible to reduce EMI. If the inductor current falls to zero or S\H\D\N\ is low, an internal anti-ringing switch is connected from (See Datasheet)", 2 GND (power) "Signal and Power Ground. Provide a short direct PCB path between GND and the (-) side of the input and output capacitors.", 3 VIN (power) "Input Supply Pin. Connect a minimum of 1uF ceramic decoupling capacitor from this pin to ground using short direct PCB traces.", 4 ~{SHDN} (in) "Logic Controlled Shutdown Input. There is an internal 4Mohm pull-down on this pin.", 5 FB (in) "Feedback Input to the gm Error Amplifier. Connect resistor divider tap to this pin. The top of the divider connects to the output capacitor, the bottom of the divider connects to GND.", 6 VOUT (power) "Output voltage sense and drain of the internal synchronous rectifier. PCB trace from VOUT to the output filter capacitor (4.7uF minimum) should be as short and wide as possible.", 7 EP (power) "The Exposed Pad must be soldered to the PCB ground plane. It serves as an additional ground connection and as a means of conducting heat away from the package."